# Altium schematic symbol library LM311DR.SchLib: 2 symbols
Pins are listed as number, name and electrical type; pins without a type are passive.

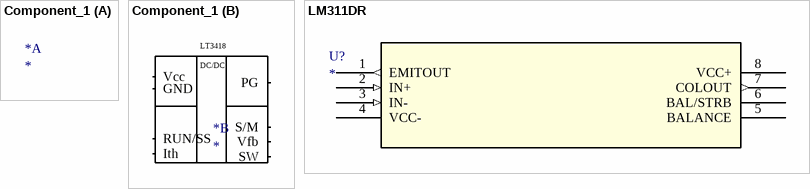
[diagram p0: symbols Component_1 to LM311DR]

## Component_1
designator *
part B pins: 1 SW (power), 1 Vfb (power), 1 S/M (power), 1 PG (power), 1 Ith (power), 1 RUN/SS (power), 1 Vcc (power), 1 GND (power)
part B text: LT3418; DC/DC

## LM311DR
designator U?
Differential Comparator With Strobes; Manufacturer: Texas Instruments; GENERIC_PART_NUMBER: LM311; INDUSTRY_STD_PKG_TYPE: SOIC; PIN_COUNT: 8; PACKAGE_DESIGNATOR: D; Datasheet_URL: http://www.ti.com/lit/gpn/LM311; FAMILY_NAME: COMPARATOR; Copyright: Copyright (C) 2018 Accelerated Designs. All rights reserved; RefDes: RefDes; Type: DEV
footprint D8
pins: 1 EMITOUT (out), 2 IN+ (in), 3 IN- (in), 4 VCC- (power), 5 BALANCE, 6 BAL/STRB, 7 COLOUT (out), 8 VCC+ (power)